# Altium schematic symbol library TPS82130.Schlib: 1 symbol
Pins are listed as number, name and electrical type; pins without a type are passive.

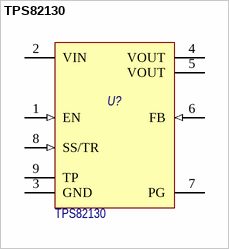
[diagram p0: symbol TPS82130]

## TPS82130
designator U?
17-V Input 3-A Step-Down Converter MicroSiP™ Module with Integrated Inductor; Потребление, Вт: 1,0; ComponentLink1Description: Data sheet; ComponentLink1URL: http://www.ti.com/lit/ds/symlink/tps82130.pdf; Назначение: 17-V Input 3-A Step-Down Converter MicroSiP™ Module with Integrated Inductor; Наименование: TPS82130
footprint uSiL-8 (microSiP 9-pin 3.0x2.8mm)
pins: 1 EN (in) "Enable pin. Pull High to enable the device. Pull Low to disable the device. This pin has an internal pull-down resistor of typically 400kohm when the device is disabled", 2 VIN (power) "Input pin.", 3 GND (power) "Ground pin.", 4 VOUT (power) "Output pin.", 5 VOUT (power) "Output pin.", 6 FB (in) "Feedback reference pin. An external resistor divider connected to this pin programs the output voltage.", 7 PG (oc) "Power good open drain output pin. A pull-up resistor can be connected to any voltage less than 6V. Leave it open if it is not used.", 8 SS/TR (in), 9 TP (power) "The exposed thermal pad must be connected to the GND pin. Must be soldered to achieve appropriate power dissipation and mechanical reliability."